# Altium footprint library PCB_Potentiostat_revA1.PcbLib: 33 footprints (part 1 of 3)
Each footprint in its own frame and in the unit in brackets; x right, y up, seen from the top. Pads: shape width x height; smd on the part's side, far side on the other; paste and mask are expansions set on the pad; w line width, h text height; cw(c..) or ccw(c..) is an arc to the next point about the centre after c.
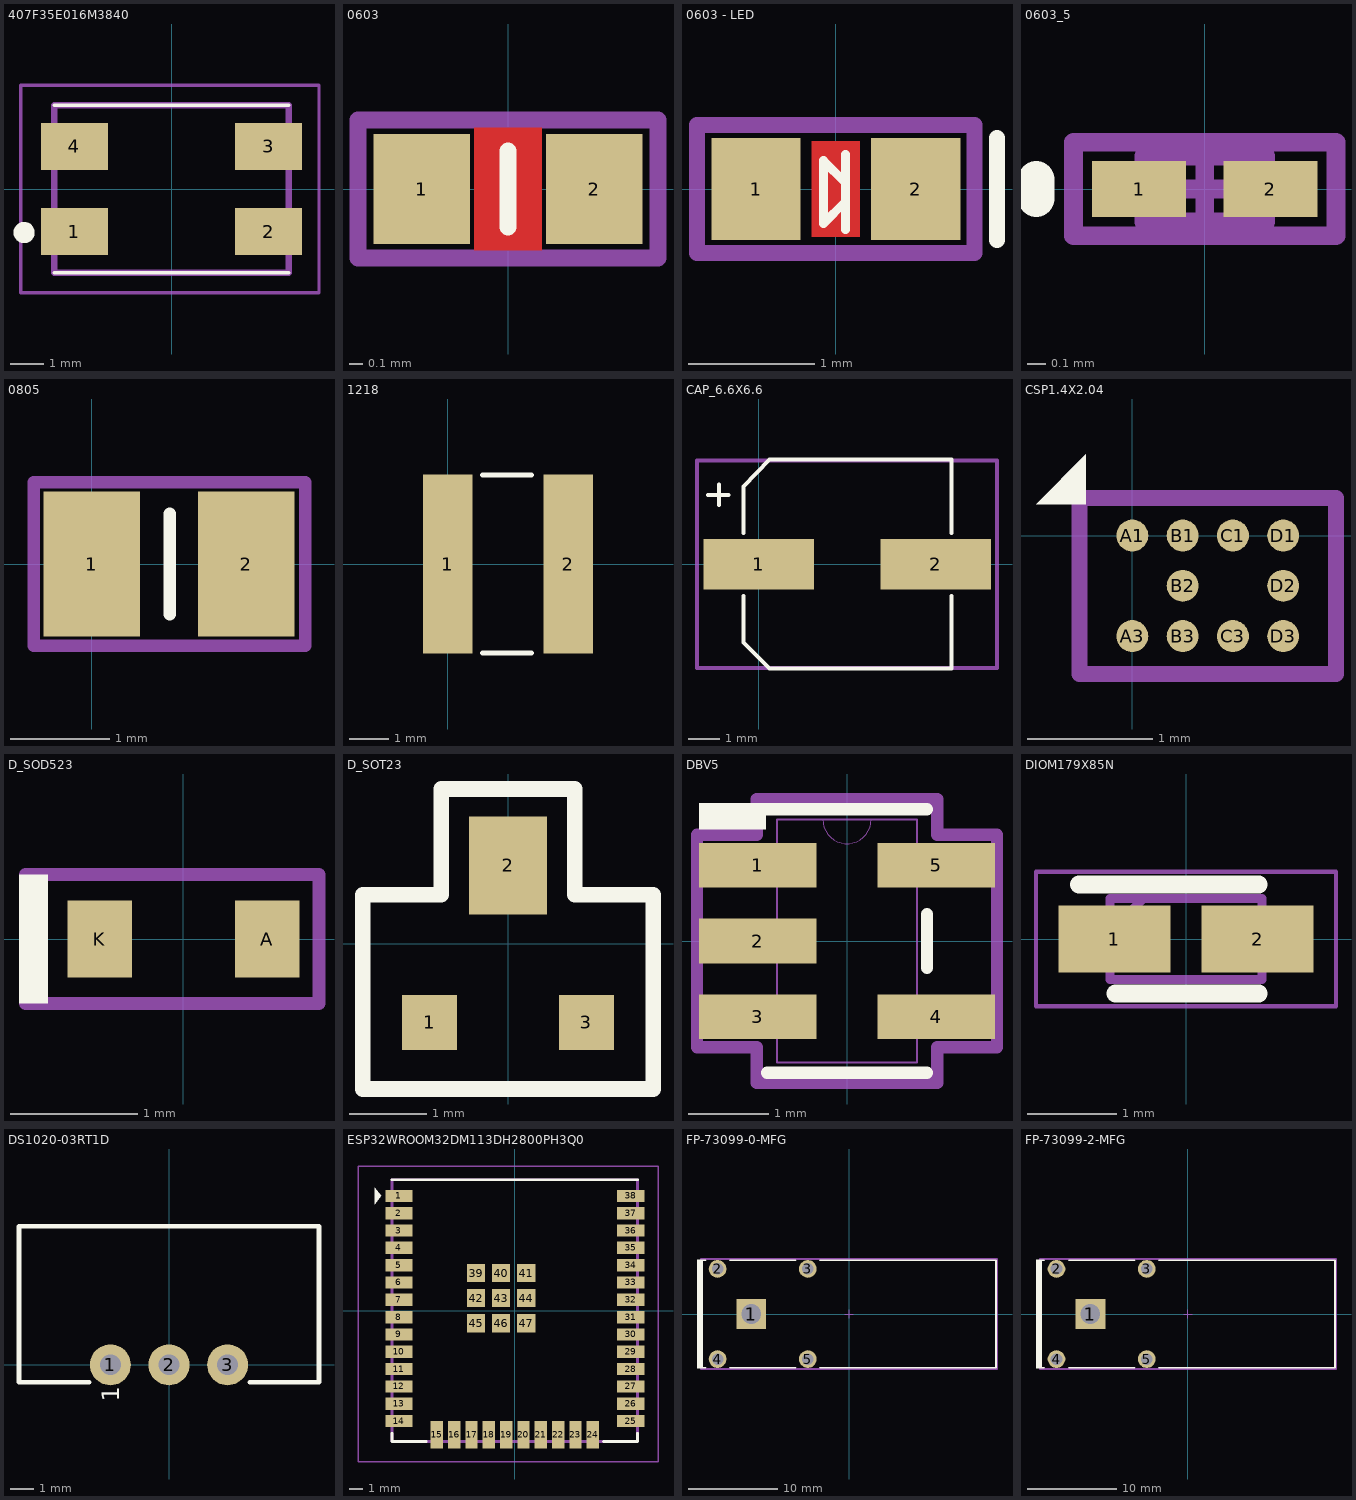
[diagram p0: the footprints below, top view; thin cyan lines are the x and y axes]

## 407F35E016M3840 [mm]
height 1.5
pads (4):
  rect 2x1.4 smd: 1(-2.9,-1.27) 2(2.9,-1.27) 3(2.9,1.27) 4(-2.9,1.27)
Top Overlay:
  circle w0.33: c-4.4,-1.3 r0.152
  lines w0.1: -3.5,-2.5 3.5,-2.5 ; -3.5,2.5 3.5,2.5
Mechanical 13:
  lines w0.1: -4.5,-3.1 4.4,-3.1 4.4,3.1 -4.5,3.1 -4.5,-3.1
  lines w0.2: -3.5,-2.5 -3.5,2.5 3.5,2.5 3.5,-2.5 -3.5,-2.5
3D body "407F35E016M3840.stp": height 1.4, standoff 0, extent -3.76,-2.5 3.76,2.5

## 0603 [mil]
pads (2):
  rect 28x32 smd: 1(-25,0) 2(25,0)
Top Layer:
  pour cut-out: -9.84,-17.72 9.84,-17.72 9.84,17.72 -9.84,17.72
Top Overlay:
  lines w5: 0,-11 0,11
Mechanical 13:
  lines w5: -43.5,-20 43.5,-20 43.5,20 -43.5,20 -43.5,-20
3D body "0603E.STEP": height 18.9, standoff -1.18, extent -31.74,-17.03 31.26,16.83

## 0603 - LED [mil]
height 59.06
pads (2):
  rect 28x32 smd: 1(-25,0) 2(25,0)
Top Layer:
  pour cut-out: -7.5,-15 7.5,-15 7.5,15 -7.5,15
Top Overlay:
  lines w2.76: 3.04,-12.8 3.04,10.83 ; -3.89,-10.87 -3.89,8.9 3.04,1.97 3.04,-3.94 -3.89,-10.87
  lines w5: 50.5,-16 50.5,16
Mechanical 13:
  lines w5: -43.5,-20 43.5,-20 43.5,20 -43.5,20 -43.5,-20
  text "K" at 29.62,2.95 h12.01
3D body "SW3dPS-LED SMD0603.STEP": height 26.76, standoff 0.19, extent -32.48,-15 32.48,13.54

## 0603_5 [mm] "Chip Inductor, Body 0.6x0.3mm, IPC High Density"
height 0.55
pads (2):
  rect 0.5x0.3 smd: 1(-0.35,0) 2(0.35,0)
Top Overlay:
  lines w0.2: -0.9,-0.05 -0.9,0.05
Mechanical 13:
  lines w0.1: -0.175,0 0.175,0 ; 0,-0.175 0,0.175 ; -0.7,-0.25 0.7,-0.25 0.7,0.25 -0.7,0.25 -0.7,-0.25 ; -0.325,-0.175 -0.325,0.175 0.325,0.175 0.325,-0.175 -0.325,-0.175
3D body: height 0.55, standoff 0, extent -0.325,-0.175 0.325,0.175

## 0805 [mil]
height 39.37
pads (2):
  rect 38.5x57.87 smd: 1(0,0) 2(61.5,0)
Top Overlay:
  lines w5: 31,-20 31,20
Mechanical 13:
  lines w5: -23,-32.48 85,-32.48 85,32.48 -23,32.48 -23,-32.48
  text ".Designator" at -12,-11 h12
3D body "0805 SMD Resistor.STEP": height 30.79, standoff 0, extent -7.87,-24.6 70.87,24.61

## 1218 [mm]
height 4.65
pads (2):
  rect 1.27x4.6 smd: 1(0,0) 2(3.1,0)
Top Overlay:
  lines w0.127: 0.889,-2.286 2.159,-2.286 ; 0.889,2.286 2.159,2.286
3D body "User Library-RESC3225X06N.STEP": height 0.55, standoff 0, extent -0.175,-1.25 3.025,1.25

## CAP_6.6X6.6 [mm]
height 1.5
pads (2):
  rect 3.5x1.6 smd: 1(0,0) 2(5.6,0)
Top Overlay:
  lines w0.127: -1.61,2.2 -0.96,2.2 ; -1.27,1.89 -1.27,2.54 ; -0.49,-1 -0.49,-2.47 0.34,-3.3 6.1,-3.3 6.1,-1 ; -0.49,1 -0.49,2.47 0.34,3.33 6.1,3.33 ; 6.1,1 6.1,3.3
Mechanical 13:
  lines w0.127: -1.96,-3.28 7.54,-3.28 7.54,3.3 -1.96,3.3 -1.96,-3.28
  text ".Designator" at 0.43,1.61 h0.7

## CSP1.4X2.04 [mil]
height 49.21
pads (10):
  round 10 smd: A1(0,0) A3(0,-31.5) B1(15.75,0) B2(15.75,-15.75) B3(15.75,-31.5) C1(31.5,0) C3(31.5,-31.5) D1(47.24,0) D2(47.24,-15.75) D3(47.24,-31.5)
Top Overlay:
  region: -14.54,9.81 -14.54,25.46 -30.19,9.81
Mechanical 13:
  lines w5: -16.54,-43.31 63.78,-43.31 63.78,11.81 -16.54,11.81 -16.54,-43.31

## D_SOD523 [mil]
height 49.21
pads (2):
  rect 20x24 smd: A(25.98,0) K(-25.98,0)
Top Overlay:
  rectangle: -50.98,-19.99 -41.98,20.01
Mechanical 13:
  lines w4: -49,-20 42,-20 42,20 -49,20 -49,-20
3D body "SW3dPS-SOD523.STEP": height 27.95, standoff 0, extent -36.02,-16.71 36.03,16.72

## D_SOT23 [mil]
height 49.21
pads (3):
  rect 28x28 smd: 1(-40,-40) 3(40,-40)
  rect 40x50 smd: 2(0,40)
Top Overlay:
  lines w8: -74,-74 74,-74 74,25 34,25 34,79 -34,79 -34,25 -74,25 -74,-74
3D body "User Library-SOT23-2.STEP": height 42.52, standoff 0, extent -59.05,-51.97 59.06,51.97

## DBV5 [mil]
height 59.06
pads (5):
  rect 58x22 smd: 1(-44,37.4) 2(-44,0) 3(-44,-37.4) 4(44,-37.4) 5(44,37.4)
Top Overlay:
  rectangle: -73,55 -40,68
  lines w6: -39.5,-65 39.5,-65 ; -39.5,65 39.5,65 ; 39.5,-13.3 39.5,13.3
Mechanical 13:
  lines w0: -12,60 ccw(c0,60) 12,60
  lines w1: -59,-47.4 -34.5,-47.4 -34.5,-27.4 -59,-27.4 -59,-47.4 ; -59,-10 -34.5,-10 -34.5,10 -59,10 -59,-10 ; -59,27.4 -34.5,27.4 -34.5,47.4 -59,47.4 -59,27.4 ; -34.5,-60 -34.5,60 34.5,60 34.5,-60 -34.5,-60 ; 34.5,-47.4 59,-47.4 59,-27.4 34.5,-27.4 34.5,-47.4 ; 34.5,27.4 59,27.4 59,47.4 34.5,47.4 34.5,27.4
  lines w6: -74,-52.4 -44.5,-52.4 -44.5,-70 44.5,-70 44.5,-52.4 74,-52.4 74,52.4 44.5,52.4 44.5,70 -44.5,70 -44.5,52.4 -74,52.4 -74,-52.4

## DIOM179X85N [mm]
height 1.5
pads (2):
  rect 1.25x0.75 smd: 1(-0.8,0) 2(0.8,0)
Top Overlay:
  lines w0.2: -1.194,0.61 0.813,0.61 ; -0.787,-0.61 0.813,-0.61
Mechanical 13:
  lines w0.05: -1.675,-0.75 1.675,-0.75 1.675,0.75 -1.675,0.75 -1.675,-0.75
  lines w0.1: -0.85,0.075 -0.475,0.45 ; -0.85,-0.45 -0.85,0.45 0.85,0.45 0.85,-0.45 -0.85,-0.45
3D body "CD0603-B00340.stp": height 0.85, standoff 0, extent -0.85,-0.45 0.85,0.45

## DS1020-03RT1D [mil]
pads (3):
  round 70 hole 35.43: 1(-100,0) 2(0,0) 3(100,0)
Top Overlay:
  lines w8: -135.83,-29.53 -255.91,-29.53 -255.91,236.22 255.91,236.22 255.91,-29.53 137.8,-29.53
  text "1" at -84.74,-62.9 h30
3D body: height 177.17, standoff 0, extent -255.91,-29.53 255.91,236.22

## ESP32WROOM32DM113DH2800PH3Q0 [mm]
height 1.5
pads (47):
  rect 2x0.9 smd: 1(-8.5,8.41) 2(-8.5,7.14) 3(-8.5,5.87) 4(-8.5,4.6) 5(-8.5,3.33) 6(-8.5,2.06) 7(-8.5,0.79) 8(-8.5,-0.48) 9(-8.5,-1.75) 10(-8.5,-3.02) 11(-8.5,-4.29) 12(-8.5,-5.56) 13(-8.5,-6.83) 14(-8.5,-8.1) 25(8.5,-8.1) 26(8.5,-6.83) 27(8.5,-5.56) 28(8.5,-4.29) 29(8.5,-3.02) 30(8.5,-1.75) 31(8.5,-0.48) 32(8.5,0.79) 33(8.5,2.06) 34(8.5,3.33) 35(8.5,4.6) 36(8.5,5.87) 37(8.5,7.14) 38(8.5,8.41)
  rect 0.9x2 smd: 15(-5.715,-9.1) 16(-4.445,-9.1) 17(-3.175,-9.1) 18(-1.905,-9.1) 19(-0.635,-9.1) 20(0.635,-9.1) 21(1.905,-9.1) 22(3.175,-9.1) 23(4.445,-9.1) 24(5.715,-9.1)
  rect 1.33x1.33 smd: 39(-2.835,2.745) 40(-1,2.745) 41(0.835,2.745) 42(-2.835,0.91) 43(-1,0.91) 44(0.835,0.91) 45(-2.835,-0.925) 46(-1,-0.925) 47(0.835,-0.925)
Top Overlay:
  region: -9.779,8.407 -10.262,9.017 -10.262,7.798
  lines w0.203: -9,-9 -9,-9.6 -6.5,-9.6 ; -9,9.6 9,9.6 ; 6.5,-9.6 9,-9.6 9,-9
Mechanical 13:
  lines w0.1: -11.5,-11.1 -11.5,10.6 10.5,10.6 10.5,-11.1 -11.5,-11.1
  lines w0.2: -9,-9.6 9,-9.6 9,9.6 -9,9.6 -9,-9.6
3D body "ESP32-WROOM-32D_M113DH2800PH3Q0_.stp": height 3.1, standoff 0, extent -9,-9.6 9,15.9

## FP-73099-0-MFG [mm]
height 1.5
pads (5):
  rect 3.35x3.35 hole 2.2 paste-1000 mask+0: 1(-11,0)
  round 2 hole 1.3 paste-1000 mask+0: 2(-14.8,5.08) 3(-4.64,5.08) 4(-14.8,-5.08) 5(-4.64,-5.08)
Top Overlay:
  rectangle: -17.12,-6.147 -16.459,6.147
  lines w0.2: -16.175,-6.064 -16.564,-6.064 -16.564,6.064 -16.175,6.064 ; -13.425,-6.064 -6.015,-6.064 ; -13.425,6.064 -6.015,6.064 ; -3.265,-6.064 16.564,-6.064 16.564,6.064 -3.265,6.064
Mechanical 13:
  lines w0.1: -0.5,0 0.5,0 ; 0,-0.5 0,0.5
  lines w0.2: -16.663,-6.18 16.663,-6.18 ; -16.663,-6.18 -16.663,6.18 ; -16.663,-6.18 16.663,-6.18 ; -16.663,-6.18 -16.663,6.18 ; -16.663,6.18 16.663,6.18 ; -16.663,6.18 16.663,6.18 ; 16.663,-6.18 16.663,6.18 ; 16.663,-6.18 16.663,6.18
  text ".Designator" at 0,0.011 h1
3D body "Conn_Pomona_Electronics_73099-0_eec.STEP": height 11.66, standoff -3.4, extent -16.5,-6 16.5,6

## FP-73099-2-MFG [mm]
height 1.5
pads (5):
  rect 3.35x3.35 hole 2.2 paste-1000 mask+0: 1(-10.986,0)
  round 2 hole 1.3 paste-1000 mask+0: 2(-14.795,5.08) 3(-4.635,5.08) 4(-14.795,-5.08) 5(-4.635,-5.08)
Top Overlay:
  rectangle: -17.105,-6.147 -16.445,6.147
  lines w0.2: -16.171,-6.058 -16.561,-6.058 -16.561,6.058 -16.171,6.058 ; -13.42,-6.058 -6.011,-6.058 ; -13.42,6.058 -6.011,6.058 ; -3.26,-6.058 16.561,-6.058 16.561,6.058 -3.26,6.058
Mechanical 13:
  lines w0.1: -0.5,0 0.5,0 ; 0,-0.5 0,0.5
  lines w0.2: -16.661,-6.18 16.661,-6.18 ; -16.661,-6.18 -16.661,6.18 ; -16.661,-6.18 16.661,-6.18 ; -16.661,-6.18 -16.661,6.18 ; -16.661,6.18 16.661,6.18 ; -16.661,6.18 16.661,6.18 ; 16.661,-6.18 16.661,6.18 ; 16.661,-6.18 16.661,6.18
  text ".Designator" at 0,0.011 h1
3D body "Conn_Pomona_Electronics_73099-2_eec.STEP": height 11.66, standoff -3.4, extent -16.5,-6 16.5,6